# EAGLE library part FT231X (library Ai_IC)
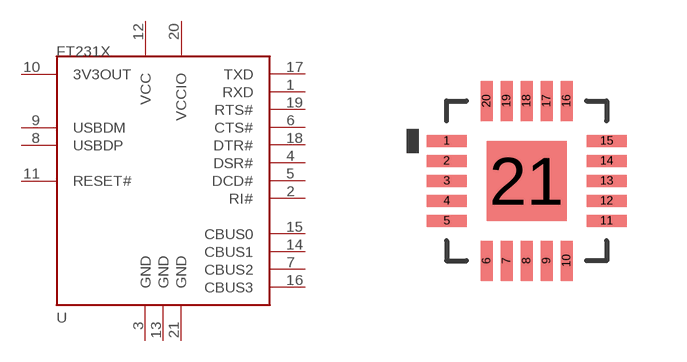
[diagram p11: symbol with the pads of QFN20_PAD; footprint QFN20_PAD]

Designator prefix U

## FT231X-Q  [QFN20_PAD]
1  RXD
2  RI#
3  GND
4  DSR#
5  DCD#
6  CTS#
7  CBUS2
8  USBDP
9  USBDM
10  3V3OUT
11  RESET#
12  VCC
13  GND
14  CBUS1
15  CBUS0
16  CBUS3
17  TXD
18  DTR#
19  RTS#
20  VCCIO
21  GND

## Footprint QFN20_PAD (pad centres in mm)
smd 1 x 0.3: 1 -2,1; 2 -2,0.5; 3 -2,0; 4 -2,-0.5; 5 -2,-1; 11 2,-1; 12 2,-0.5; 13 2,0; 14 2,0.5; 15 2,1
smd 0.3 x 1: 6 -1,-2; 7 -0.5,-2; 8 0,-2; 9 0.5,-2; 10 1,-2; 16 1,2; 17 0.5,2; 18 0,2; 19 -0.5,2; 20 -1,2
smd 2 x 2: 21 0,0